# Altium schematic symbol library CON7.SchLib: 1 symbol
Pins are listed as number, name and electrical type; pins without a type are passive.

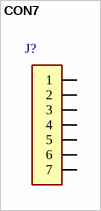
[diagram p0: symbol CON7]

## CON7
designator J?, comment http://www.te.com/commerce/DocumentDelivery/DDEController?Action=srchrtrv&DocNm=292230&DocType=Customer+Drawing&DocLang=English  (value not drawn)
PDF: 292230-7; ID: http://www.te.com/commerce/DocumentDelivery/DDEController?Action=srchrtrv&DocNm=292230&DocType=Customer+Drawing&DocLang=English; PRICE: 0.81000; BUY_LINK: http://www.digikey.com/product-detail/en/292230-7/A98712CT-ND/1855506
footprint 7PIN
pins: 1, 2, 3, 4, 5, 6, 7